# Altium schematic symbol library PRTR5V0U4D.Schlib: 1 symbol
Pins are listed as number, name and electrical type; pins without a type are passive.

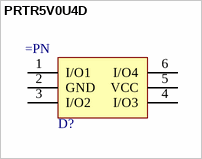
[diagram p0: symbol PRTR5V0U4D]

## PRTR5V0U4D
designator D?
Quad ESD Protection IC
pins: 1 I/O1, 2 GND (power), 3 I/O2, 4 I/O3, 5 VCC (power), 6 I/O4